# Altium footprint library Diodes SMD.PcbLib: 1 footprints
Each footprint in its own frame and in the unit in brackets; x right, y up, seen from the top. Pads: shape width x height; smd on the part's side, far side on the other; paste and mask are expansions set on the pad; w line width, h text height; cw(c..) or ccw(c..) is an arc to the next point about the centre after c.
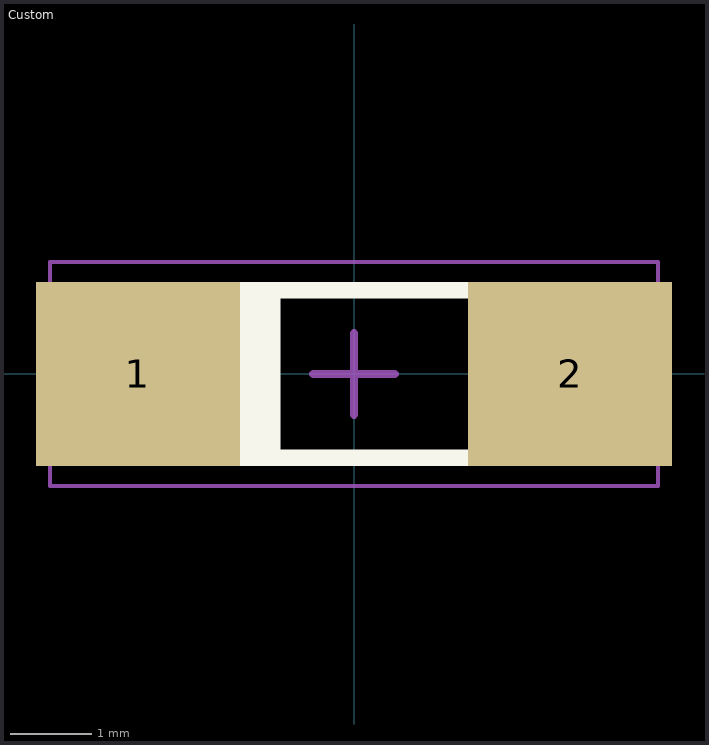
[diagram p0: the footprint, top view; thin cyan lines are the x and y axes]

## Custom [mm] "MELF Diode, 2-Leads, Body 6,00x2,00mm, IPC Medium Density"
height 2
pads (2):
  rect 2.5x2.25 smd: 1(-2.65,0) 2(2.65,0)
Top Overlay:
  rectangle: -1.45,-1.025 -0.9,1.025
  lines w0.2: 1.45,-1.025 -1.45,-1.025 -1.45,1.025 1.45,1.025
Mechanical 13:
  lines w0.1: -3,-1 -3,1 3,1 3,-1 -3,-1
Mechanical 15:
  lines w0.05: -3.725,-1.375 -3.725,1.375 3.725,1.375 3.725,-1.375 -3.725,-1.375
  lines w0.1: -0.5,0 0.5,0 ; 0,-0.5 0,0.5
3D body: height 2, standoff 0, extent -3,-1 -2,0.999
3D body: height 1.99, standoff 0.04, extent -1.4,-0.971 -0.8,0.97
3D body: height 1.98, standoff 0.04, extent -2,-0.97 2,0.97
3D body: height 2, standoff 0, extent 2,-1 3,0.999